# EAGLE library part LM741 (library BME_Components)
Operational Amplifier, 8-pin MDIP
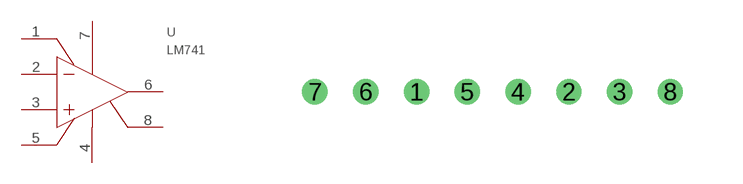
[diagram p21: symbol with the pads of LM741_PDIP-8; footprint LM741_PDIP-8]

Designator prefix U

## LM741LM741_LM741_PDIP-8 (CODE_JEDEC: MS-001-BA; COMPONENTLINK1DESCRIPTION: LM741 Datasheet; COMPONENTLINK1URL: http://www.national.com/ds/LM/LM741.pdf; COMPONENTLINK2DESCRIPTION: LM741 Web Page; COMPONENTLINK2URL: http://www.national.com/pf/LM/LM741.html; COMPONENTLINK3DESCRIPTION: N08E Package Page; COMPONENTLINK3URL: http://www.national.com/packaging/folders/n08e.html; COMPTYPE: Amplifiers; DATASHEETVERSION: Aug-2000; MANUFACTURER: National Semiconductor; PACKAGEDESCRIPTION: MDIP, .365 x .250 x .130in, 8 Lead, .100in Pitch; PACKAGEREFERENCE: N08E; PACKAGETOPMARKING: NSUZXYTTE#*LM*741CN; PACKAGEVERSION: revG, May-2006; PINCOUNT: 8; POWERWISE: N; REVISIONNOTE: Component URLs added; ROHS: N)  [LM741_PDIP-8]
1  OFS_NULL  pas
2  IN-  in
3  IN+  in
4  V-  pwr
5  OFS_NULL  pas
6  OUT  out
7  V+  pwr
8  NC  pas

## Footprint LM741_PDIP-8 (pad centres in mm)
drill 0.127 pad 0.254 round: 1 2.54,0; 2 6.35,0; 3 7.62,0; 4 5.08,0; 5 3.81,0; 6 1.27,0; 7 0,0; 8 8.89,0